# Altium schematic symbol library SCH - MICROCONTROLLER - MSP430G2553IN20.SchLib: 1 symbol
Pins are listed as number, name and electrical type; pins without a type are passive.

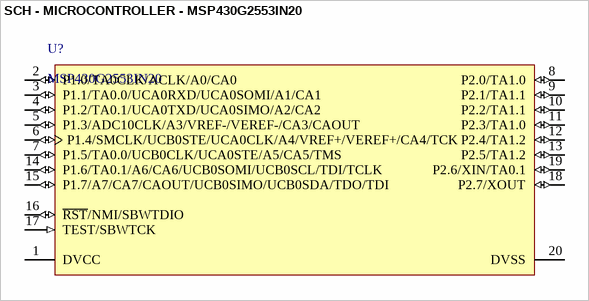
[diagram p0: symbol SCH - MICROCONTROLLER - MSP430G2553IN20]

## SCH - MICROCONTROLLER - MSP430G2553IN20
designator U?, comment MSP430G2553IN20
pins: 1 DVCC (power) "Digital supply voltage", 2 P1.0/TA0CLK/ACLK/A0/CA0 (io), 3 P1.1/TA0.0/UCA0RXD/UCA0SOMI/A1/CA1 (io), 4 P1.2/TA0.1/UCA0TXD/UCA0SIMO/A2/CA2 (io), 5 P1.3/ADC10CLK/A3/VREF-/VEREF-/CA3/CAOUT (io), 6 P1.4/SMCLK/UCB0STE/UCA0CLK/A4/VREF+/VEREF+/CA4/TCK (io), 7 P1.5/TA0.0/UCB0CLK/UCA0STE/A5/CA5/TMS (io), 8 P2.0/TA1.0 (io), 9 P2.1/TA1.1 (io), 10 P2.2/TA1.1 (io), 11 P2.3/TA1.0 (io), 12 P2.4/TA1.2 (io), 13 P2.5/TA1.2 (io), 14 P1.6/TA0.1/A6/CA6/UCB0SOMI/UCB0SCL/TDI/TCLK (io), 15 P1.7/A7/CA7/CAOUT/UCB0SIMO/UCB0SDA/TDO/TDI (io), 16 ~{RST}/NMI/SBWTDIO (io), 17 TEST/SBWTCK (in), 18 P2.7/XOUT (io), 19 P2.6/XIN/TA0.1 (io), 20 DVSS (power) "Ground reference"